# EAGLE library part MALE_2X13 (library be_con_jump)
edited: Mario Blunk
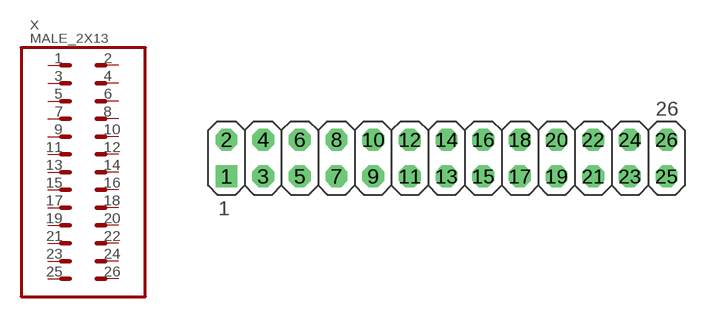
[diagram p25: symbol with the pads of T_MALE_2X13_VERTICAL_PITCH_2MM54; footprint T_MALE_2X13_VERTICAL_PITCH_2MM54]

Designator prefix X

## MALE_2X13-T-VERTICAL_PITCH_2MM54 (BOM: YES; COMMISSIONED: 2015-02-03; PART_CODE_BEL: X_PAC_T_MALE_2X13_VERTICAL_PITCH_2mm54)  [T_MALE_2X13_VERTICAL_PITCH_2MM54]
1  1  pas
2  2  pas
3  3  pas
4  4  pas
5  5  pas
6  6  pas
7  7  pas
8  8  pas
9  9  pas
10  10  pas
11  11  pas
12  12  pas
13  13  pas
14  14  pas
15  15  pas
16  16  pas
17  17  pas
18  18  pas
19  19  pas
20  20  pas
21  21  pas
22  22  pas
23  23  pas
24  24  pas
25  25  pas
26  26  pas

## Footprint T_MALE_2X13_VERTICAL_PITCH_2MM54 (pad centres in mm)
edited: Mario Blunk date: 2019-02-11
drill 1 square: 1 -15.2,-1.27
drill 1 octagon: 2 -15.2,1.27; 3 -12.66,-1.27; 4 -12.66,1.27; 5 -10.12,-1.27; 6 -10.12,1.27; 7 -7.58,-1.27; 8 -7.58,1.27; 9 -5.04,-1.27; 10 -5.04,1.27; 11 -2.5,-1.27; 12 -2.5,1.27; 13 0.04,-1.27; 14 0.04,1.27; 15 2.58,-1.27; 16 2.58,1.27; 17 5.12,-1.27; 18 5.12,1.27; 19 7.66,-1.27; 20 7.66,1.27; 21 10.2,-1.27; 22 10.2,1.27; 23 12.74,-1.27; 24 12.74,1.27; 25 15.28,-1.27; 26 15.28,1.27